# EAGLE library part XL78C800 (library memory)
MEMORY
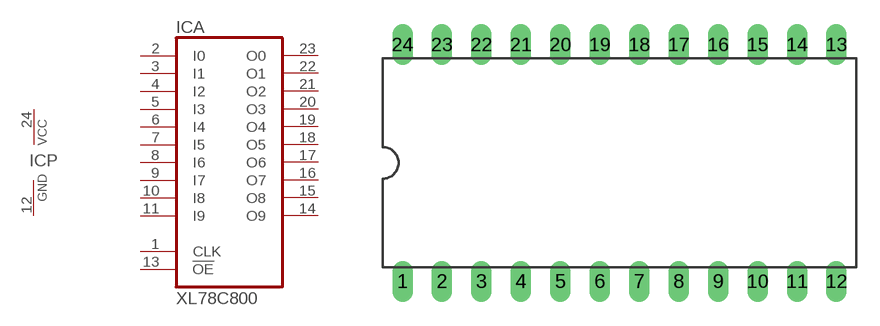
[diagram p10: symbol with the pads of DIL24; footprint DIL24]

Designator prefix IC; gates A=XL78C800 P=PWRN

## XL78C800  [DIL24]
1  A:CLK  in
2  A:I0  in
3  A:I1  in
4  A:I2  in
5  A:I3  in
6  A:I4  in
7  A:I5  in
8  A:I6  in
9  A:I7  in
10  A:I8  in
11  A:I9  in
12  P:GND  pwr
13  A:!OE  in
14  A:O9
15  A:O8  hiz
16  A:O7  hiz
17  A:O6  hiz
18  A:O5  hiz
19  A:O4  hiz
20  A:O3  hiz
21  A:O2  hiz
22  A:O1  hiz
23  A:O0
24  P:VCC  pwr

## Footprint DIL24 (pad centres in mm)
Dual In Line Package
drill 0.813 long: 1 -13.97,-7.62; 2 -11.43,-7.62; 3 -8.89,-7.62; 4 -6.35,-7.62; 5 -3.81,-7.62; 6 -1.27,-7.62; 7 1.27,-7.62; 8 3.81,-7.62; 9 6.35,-7.62; 10 8.89,-7.62; 11 11.43,-7.62; 12 13.97,-7.62; 13 13.97,7.62; 14 11.43,7.62; 15 8.89,7.62; 16 6.35,7.62; 17 3.81,7.62; 18 1.27,7.62; 19 -1.27,7.62; 20 -3.81,7.62; 21 -6.35,7.62; 22 -8.89,7.62; 23 -11.43,7.62; 24 -13.97,7.62